# EAGLE library part XR-215K (library exar)
Monolithic PHASE-LOCKED LOOP
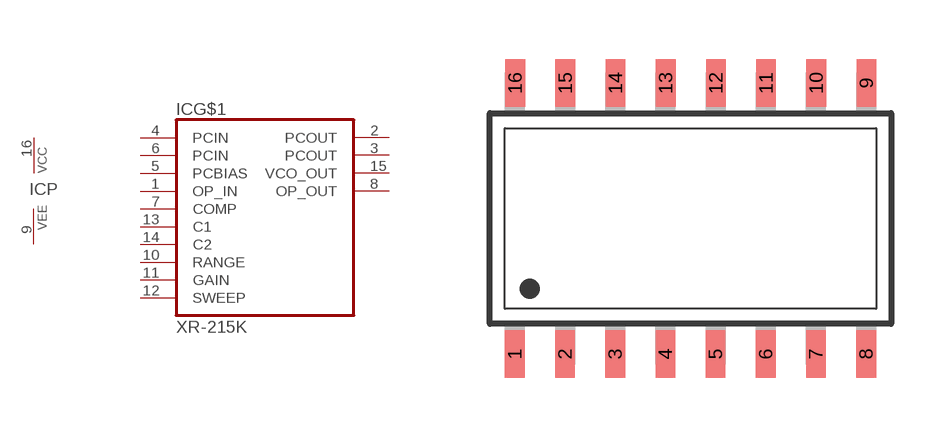
[diagram p104: symbol with the pads of JSOP-16; footprint JSOP-16]

Designator prefix IC; gates G$1=XR-215 P=PWR+/-

## XR-215K (OC_FARNELL: unknown; OC_NEWARK: unknown)  [JSOP-16]
1  G$1:OP_IN  in
2  G$1:PCOUT  out
3  G$1:PCOUT  out
4  G$1:PCIN  in
5  G$1:PCBIAS  in
6  G$1:PCIN  in
7  G$1:COMP  in
8  G$1:OP_OUT  out
9  P:VEE  pwr
10  G$1:RANGE  in
11  G$1:GAIN  in
12  G$1:SWEEP  in
13  G$1:C1  in
14  G$1:C2  in
15  G$1:VCO_OUT  out
16  P:VCC  pwr

## Footprint JSOP-16 (pad centres in mm)
JEDEC Small Outline Package
smd 0.5 x 1.2: 1 -4.445,-3.429; 2 -3.175,-3.429; 3 -1.905,-3.429; 4 -0.635,-3.429; 5 0.635,-3.429; 6 1.905,-3.429; 7 3.175,-3.429; 8 4.445,-3.429; 9 4.453,3.429; 10 3.183,3.429; 11 1.913,3.429; 12 0.643,3.429; 13 -0.627,3.429; 14 -1.897,3.429; 15 -3.167,3.429; 16 -4.437,3.429